# Altium footprint library IDC2.54-V20D.PcbLib: 1 footprints
Each footprint in its own frame and in the unit in brackets; x right, y up, seen from the top. Pads: shape width x height; smd on the part's side, far side on the other; paste and mask are expansions set on the pad; w line width, h text height; cw(c..) or ccw(c..) is an arc to the next point about the centre after c.
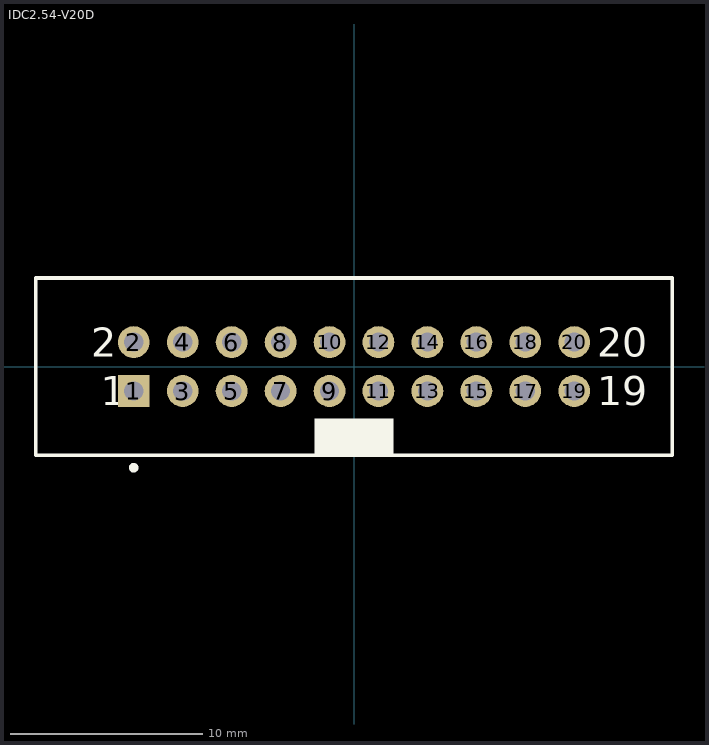
[diagram p0: the footprint, top view; thin cyan lines are the x and y axes]

## IDC2.54-V20D [mm] "Connector; IDC, Low Profile Male Header, Thru-Hole; 20 Position; Vertical; Pitch 2.54 mm; Body 33.02 x 9.2 x 9.45 mm (LxWxH)"
height 9.45
pads (20):
  rect 1.65x1.65 hole 1: 1(-11.43,-1.27)
  round 1.65 hole 1: 2(-11.43,1.27) 3(-8.89,-1.27) 4(-8.89,1.27) 5(-6.35,-1.27) 6(-6.35,1.27) 7(-3.81,-1.27) 8(-3.81,1.27) 9(-1.27,-1.27) 10(-1.27,1.27) 11(1.27,-1.27) 12(1.27,1.27) 13(3.81,-1.27) 14(3.81,1.27) 15(6.35,-1.27) 16(6.35,1.27) 17(8.89,-1.27) 18(8.89,1.27) 19(11.43,-1.27) 20(11.43,1.27)
Top Overlay:
  circle w0.25: c-11.43,-5.25 r0.125
  rectangle: -2.05,-4.6 2.05,-2.7
  lines w0.2: -16.51,-4.6 16.51,-4.6 16.51,4.6 -16.51,4.6 -16.51,-4.6
  text "19" at 12.63,-2.02 h1.5
  text "20" at 12.63,0.52 h1.5
  text "1" at -13.13,-2.02 h1.5
  text "2" at -13.63,0.52 h1.5
Mechanical 13:
  lines w0.1: -16.51,-4.6 -16.51,4.6 16.51,4.6 16.51,-4.6 -16.51,-4.6
3D body: height 9.45, standoff 0, extent -16.51,-4.6 16.51,4.6